# Altium schematic symbol library USB_MINER.SchLib: 27 symbols
Pins are listed as number, name and electrical type; pins without a type are passive.

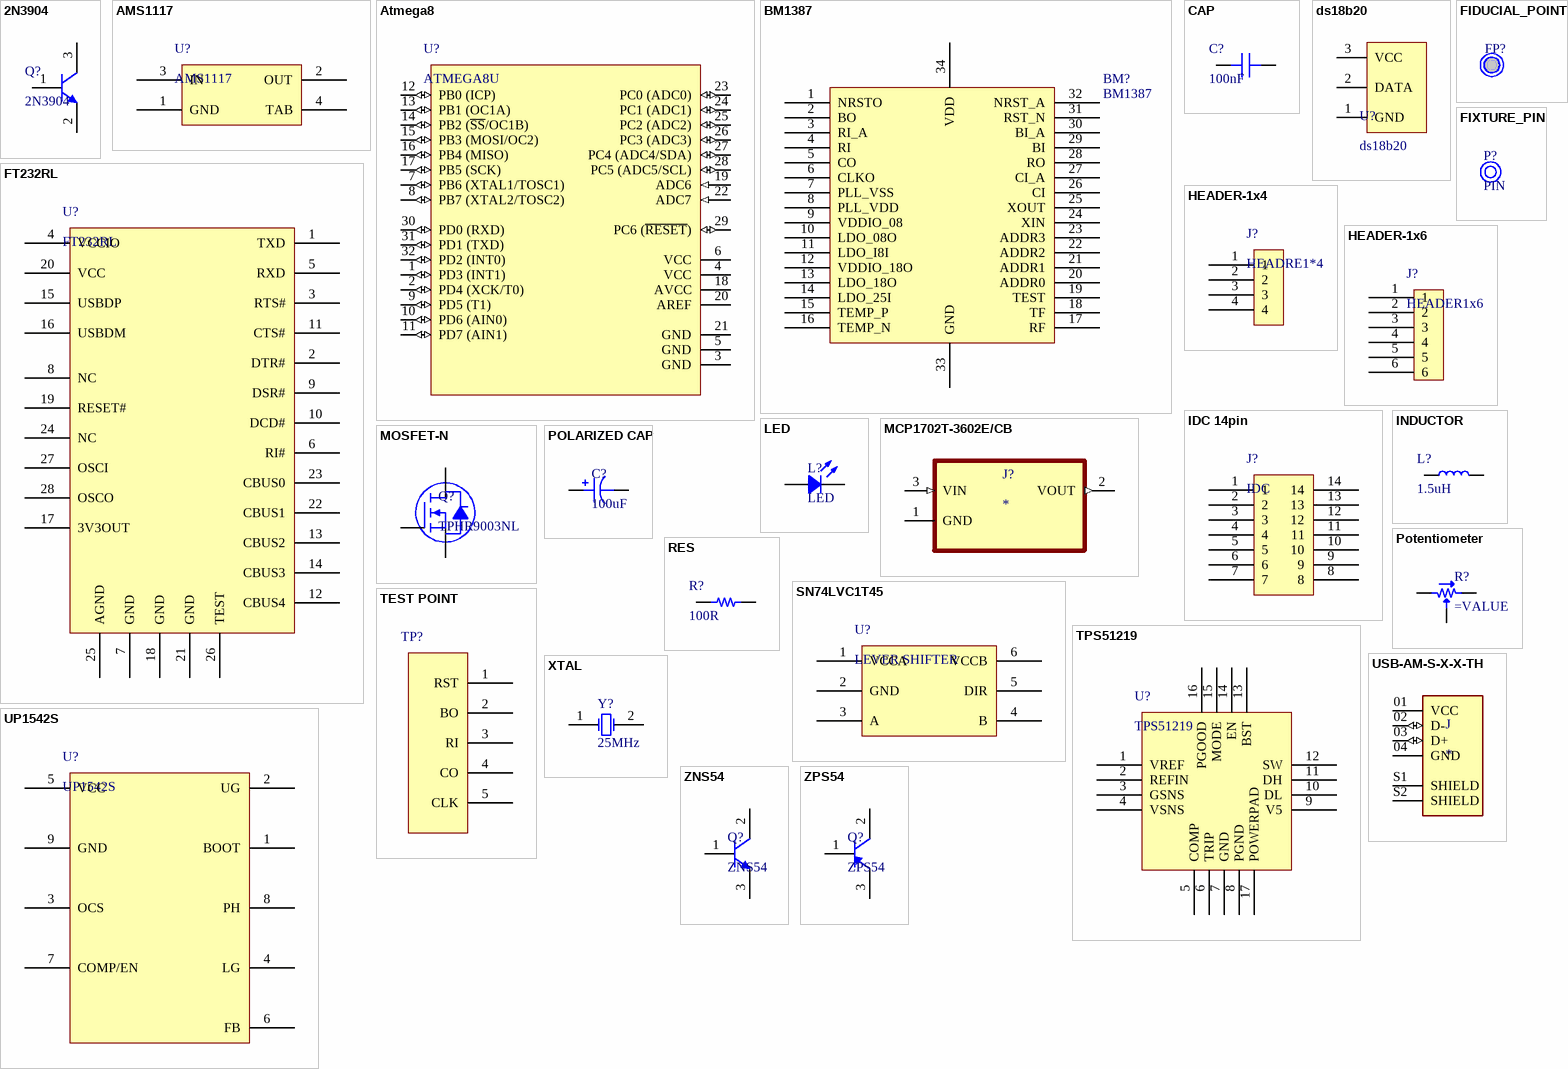
[diagram p0: symbols 2N3904 to ZPS54]

## 2N3904
designator Q?
footprint SOT-23_H (SOT23, 3-Leads, Body 2.9x1.3mm, Pitch 0.95mm, Lead Span 2.5mm, IPC Medium Density)
pins: 1 B, 2 E, 3 C

## AMS1117
designator U?
footprint AMS1117
pins: 1 GND, 2 OUT, 3 IN, 4 TAB

## Atmega8
designator U?, comment ATMEGA8U
footprint TQFP
pins: 1 PD3 (INT1) (io), 2 PD4 (XCK/T0) (io), 3 GND (power), 4 VCC (power), 5 GND (power), 6 VCC (power), 7 PB6 (XTAL1/TOSC1) (io), 8 PB7 (XTAL2/TOSC2) (io), 9 PD5 (T1) (io), 10 PD6 (AIN0) (io), 11 PD7 (AIN1) (io), 12 PB0 (ICP) (io), 13 PB1 (OC1A) (io), 14 PB2 (~{SS}/OC1B) (io), 15 PB3 (MOSI/OC2) (io), 16 PB4 (MISO) (io), 17 PB5 (SCK) (io), 18 AVCC (power), 19 ADC6 (in), 20 AREF, 21 GND (power), 22 ADC7 (in), 23 PC0 (ADC0) (io), 24 PC1 (ADC1) (io), 25 PC2 (ADC2) (io), 26 PC3 (ADC3) (io), 27 PC4 (ADC4/SDA) (io), 28 PC5 (ADC5/SCL) (io), 29 PC6 (~{RESET}) (io), 30 PD0 (RXD) (io), 31 PD1 (TXD) (io), 32 PD2 (INT0) (io)

## BM1387
designator BM?
footprint BM1387
pins: 1 NRSTO, 2 BO, 3 RI_A, 4 RI, 5 CO, 6 CLKO, 7 PLL_VSS, 8 PLL_VDD, 9 VDDIO_08, 10 LDO_08O, 11 LDO_I8I, 12 VDDIO_18O, 13 LDO_18O, 14 LDO_25I, 15 TEMP_P, 16 TEMP_N, 17 RF, 18 TF, 19 TEST, 20 ADDR0, 21 ADDR1, 22 ADDR2, 23 ADDR3, 24 XIN, 25 XOUT, 26 CI, 27 CI_A, 28 RO, 29 BI, 30 BI_A, 31 RST_N, 32 NRST_A, 33 GND, 34 VDD

## CAP
designator C?, comment 100nF
footprint CAP-SMD-0402
footprint CAP_SMD_1206
pins: 1, 2

## ds18b20
designator U?
footprint TO-92-
pins: 1 GND, 2 DATA, 3 VCC

## FIDUCIAL_POINT
designator FP?, comment FICUCIAL POINT  (value not drawn)
footprint FIDUCIAL POINT

## FIXTURE_PIN
designator P?, comment PIN
footprint PIN

## FT232RL
designator U?
footprint SSOP
pins: 1 TXD, 2 DTR#, 3 RTS#, 4 VCCIO, 5 RXD, 6 RI#, 7 GND, 8 NC, 9 DSR#, 10 DCD#, 11 CTS#, 12 CBUS4, 13 CBUS2, 14 CBUS3, 15 USBDP, 16 USBDM, 17 3V3OUT, 18 GND, 19 RESET#, 20 VCC, 21 GND, 22 CBUS1, 23 CBUS0, 24 NC, 25 AGND, 26 TEST, 27 OSCI, 28 OSCO

## HEADER-1x4
designator J?, comment HEADRE1*4
footprint HEADER-1x4
pins: 1, 2, 3, 4

## HEADER-1x6
designator J?, comment HEADER1x6
footprint HEADER-1x6
pins: 1, 2, 3, 4, 5, 6

## IDC 14pin
designator J?, comment IDC
BOX IDC 2x7
footprint IDC 14PIN
pins: 1, 2, 3, 4, 5, 6, 7, 8, 9, 10, 11, 12, 13, 14

## INDUCTOR
designator L?, comment 1.5uH
footprint IND
pins: 1, 2

## LED
designator L?
footprint LED-SMD-0805
pins: 1, 2

## MCP1702T-3602E/CB
designator J?
250 mA Low Quiescent Current LDO Regulator; MP: MCP1702T-3602E/CB; Package: None; Price: None; Value: *; Availability: Unavailable
footprint SOT95P255X145-3N
pins: 1 GND, 2 VOUT (out), 3 VIN (in)

## MOSFET-N
designator Q?, comment TPHR9003NL
footprint ADVANCE SOP
pins: D, G, S

## POLARIZED CAP
designator C?, comment 100uF
footprint CAP-TAN-CASE-B
footprint CAP-TAN-CASE-E
footprint CAP-TAN-CASE-A
footprint CAP_POL
pins: 1, 2

## Potentiometer
designator R?
Potentiometer
footprint POT
pins: 1, 2, 3

## RES
designator R?, comment 100R
footprint RES-SMD-1210
footprint RES-SMD-1206
footprint RES-SMD-0402
footprint RES-SMD-0603
pins: 1, 2

## SN74LVC1T45
designator U?, comment LEVER SHIFTER
footprint SOT23-6PIN
pins: 1 VCCA, 2 GND, 3 A, 4 B, 5 DIR, 6 VCCB

## TEST POINT
designator TP?
footprint TEST_POINT
pins: 1 RST, 2 BO, 3 RI, 4 CO, 5 CLK

## TPS51219
designator U?
footprint QFN50P300X300X80-17N
pins: 1 VREF, 2 REFIN, 3 GSNS, 4 VSNS, 5 COMP, 6 TRIP, 7 GND, 8 PGND, 9 V5, 10 DL, 11 DH, 12 SW, 13 BST, 14 EN, 15 MODE, 16 PGOOD, 17 POWERPAD

## UP1542S
designator U?
footprint PSOP8
pins: 1 BOOT, 2 UG, 3 OCS, 4 LG, 5 VCC, 6 FB, 7 COMP/EN, 8 PH, 9 GND

## USB-AM-S-X-X-TH
designator J
USB-A (USB TYPE-A) USB 2.0 Plug Connector 4 Position Through Hole, Right Angle; MF: Samtec; MP: USB-AM-S-F-B-TH; Toby_UK-Purchase-URL: https://snapeda.com/shop?store=Toby+UK&id=474273; Price: None; SnapEDA_Link: https://www.snapeda.com/parts/USB-AM-S-F-B-TH/Samtec%20Inc./view-part/474273/?ref=snap; Availability: Unavailable; Package: None; Value: *
footprint SAMTEC_USB-AM-S-X-X-TH
pins: 01 VCC (power), 02 D- (io), 03 D+ (io), 04 GND (power), S1 SHIELD, S2 SHIELD

## XTAL
designator Y?, comment 25MHz
Crystal Oscillator; Published: 8-Jun-2000; LatestRevisionDate: 17-Jul-2002; LatestRevisionNote: Re-released for DXP Platform.; PackageReference: R38; Publisher: Altium Limited; PackageDescription: Crystal, Thru-Hole; 2 Leads; Body 3.1 x 8.2 mm (Dia.xH); Value: 25MHz
footprint XTALL
footprint XTAL_SMD
pins: 1 OSC1, 2 OSC2

## ZNS54
designator Q?
footprint ZNSP
pins: 1 B, 2 C, 3 E

## ZPS54
designator Q?
footprint ZNSP
pins: 1 B, 2 C, 3 E